# Altium schematic symbol library KST-51.SchLib: 34 symbols
Pins are listed as number, name and electrical type; pins without a type are passive.

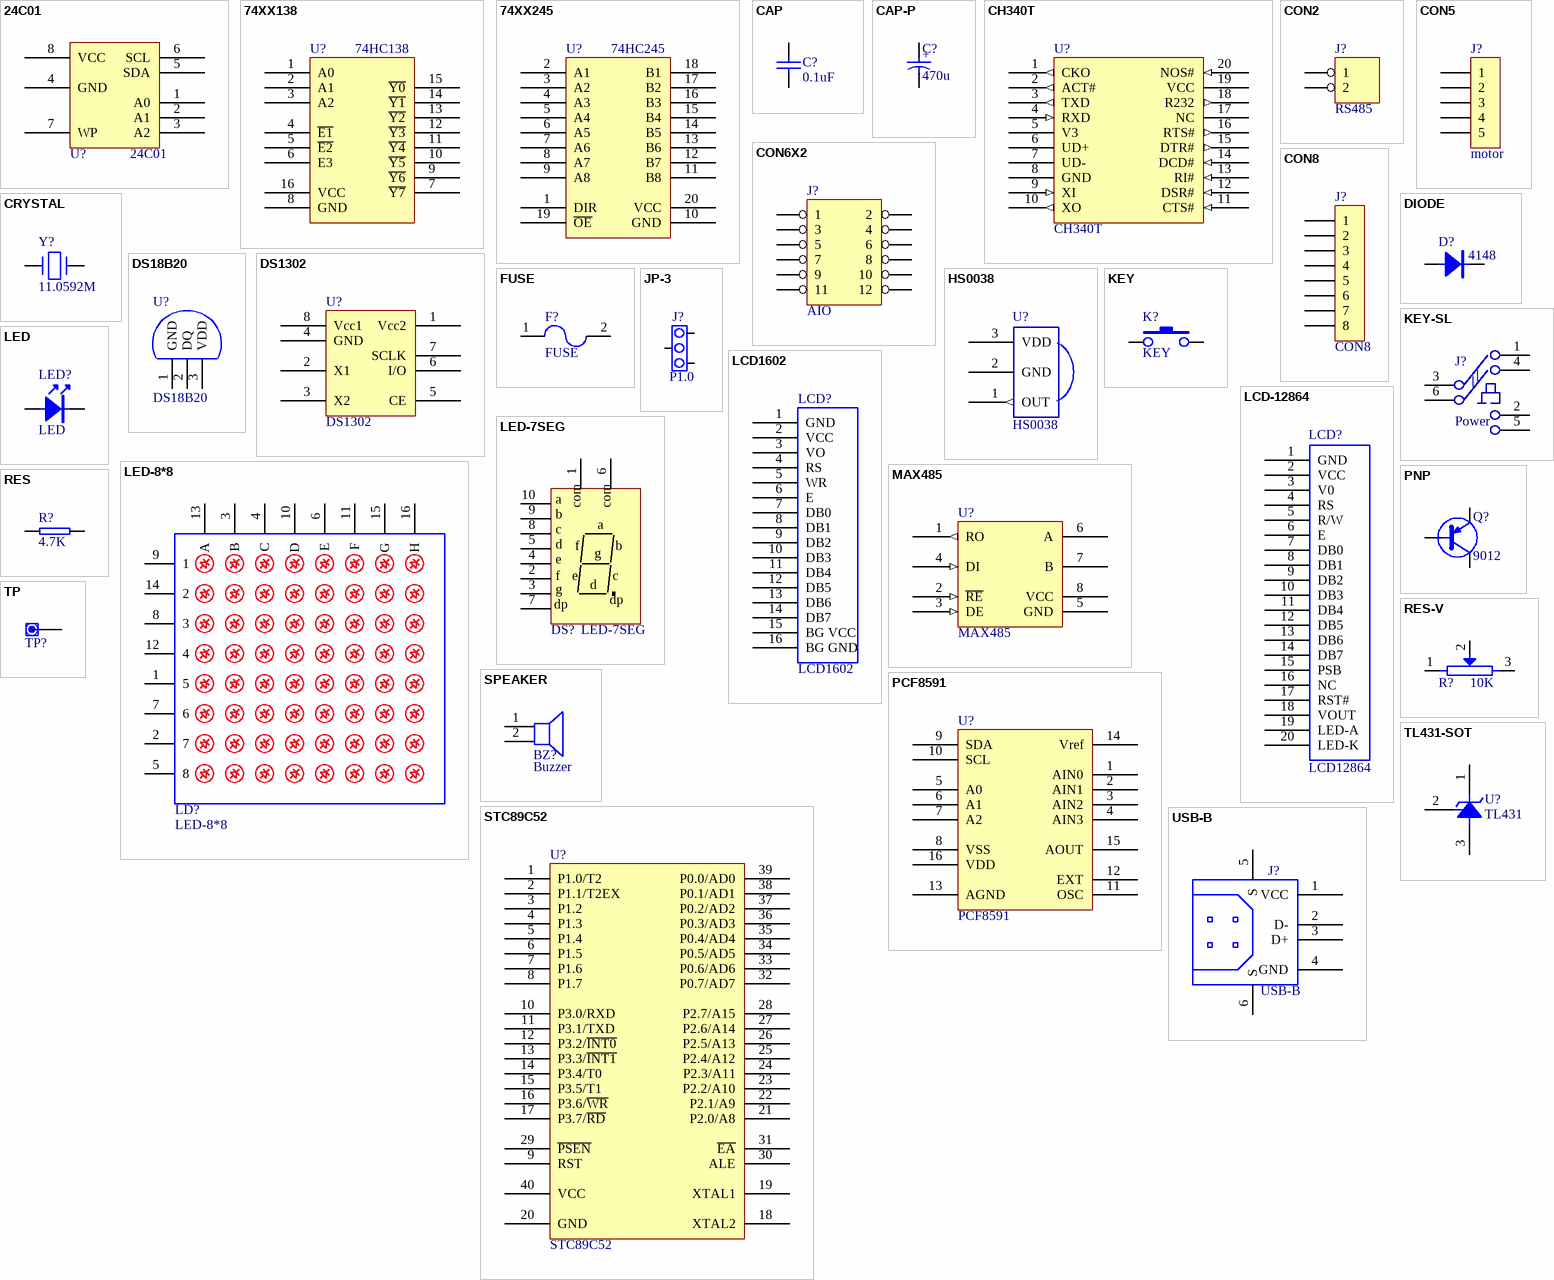
[diagram p0: symbols 24C01 to USB-B]

## 24C01
designator U?
footprint SOP8
footprint TSSOP8
footprint DIP8
pins: 1 A0, 2 A1, 3 A2, 4 GND, 5 SDA, 6 SCL, 7 WP, 8 VCC

## 74XX138
designator U?, comment 74HC138
footprint SOP16-240 (Footprint not found)
footprint DIP16
pins: 1 A0, 2 A1, 3 A2, 4 ~{E1}, 5 ~{E2}, 6 E3, 7 ~{Y7}, 8 GND, 9 ~{Y6}, 10 ~{Y5}, 11 ~{Y4}, 12 ~{Y3}, 13 ~{Y2}, 14 ~{Y1}, 15 ~{Y0}, 16 VCC

## 74XX245
designator U?, comment 74HC245
footprint SOP20
footprint DIP20
footprint SOP20-400
pins: 1 DIR, 2 A1, 3 A2, 4 A3, 5 A4, 6 A5, 7 A6, 8 A7, 9 A8, 10 GND, 11 B8, 12 B7, 13 B6, 14 B5, 15 B4, 16 B3, 17 B2, 18 B1, 19 ~{OE}, 20 VCC

## CAP
designator C?, comment 0.1uF
footprint 0603C
footprint 0805C
footprint 1206C
footprint RAD-0.2
pins: 1, 2

## CAP-P
designator C?, comment 470u
footprint 1206C
footprint RB.1/.24
footprint RB.2/.4
footprint RB.09/.2
pins: 1, 2
text: +

## CH340T
designator U?
USB to UART Bridge Controller
footprint SSOP20-5.3 (20-Lead Shrink Small Outline Package, Body Width 5.3mm)
pins: 1 CKO (out), 2 ACT# (out), 3 TXD (out), 4 RXD (in), 5 V3 (power), 6 UD+, 7 UD-, 8 GND (power), 9 XI (in), 10 XO (out), 11 CTS# (in), 12 DSR# (in), 13 RI# (in), 14 DCD# (in), 15 DTR# (out), 16 RTS# (out), 17 NC, 18 R232 (out), 19 VCC (power), 20 NOS# (in)
2 alternate drawings of the same symbol

## CON2
designator J?, comment RS485
Connector 2p
footprint PLUG2-5.08
pins: 1, 2
2 alternate drawings of the same symbol

## CON5
designator J?, comment motor
Connector
footprint PLUG-S5
pins: 1, 2, 3, 4, 5

## CON6X2
designator J?, comment AIO
Connector 6*2p
footprint IDC6X2-M
pins: 1, 2, 3, 4, 5, 6, 7, 8, 9, 10, 11, 12
2 alternate drawings of the same symbol

## CON8
designator J?
Connector
footprint SIP8
pins: 1, 2, 3, 4, 5, 6, 7, 8

## CRYSTAL
designator Y?, comment 11.0592M
footprint XTAL1
footprint XTAL
pins: 1, 2

## DIODE
designator D?, comment 4148
footprint D0805
footprint DIODE-1
footprint DIODE-2
footprint 1206D
pins: A 1, K 2

## DS18B20
designator U?
footprint TO-92
pins: 1 GND, 2 DQ, 3 VDD

## DS1302
designator U?
footprint SOP8
pins: 1 Vcc2, 2 X1, 3 X2, 4 GND, 5 CE, 6 I/O, 7 SCLK, 8 Vcc1

## FUSE
designator F?
footprint FUSE-1
footprint 1812
pins: 1, 2

## HS0038
designator U?
Infrared Receiver
footprint HS0038
pins: 1 OUT (out), 2 GND (power), 3 VDD (power)
2 alternate drawings of the same symbol

## JP-3
designator J?, comment P1.0
footprint SIP3
footprint JP3*1
pins: 1, 2, 3

## KEY
designator K?
footprint KEY-1
footprint KEY-6*6
pins: 1, 2

## KEY-SL
designator J?, comment Power
Self-locking button
pins: 1, 2, 3, 4, 5, 6
2 alternate drawings of the same symbol

## LCD1602
designator LCD?
footprint SIP16
footprint LCD1602
pins: 1 GND, 2 VCC, 3 VO, 4 RS, 5 WR, 6 E, 7 DB0, 8 DB1, 9 DB2, 10 DB3, 11 DB4, 12 DB5, 13 DB6, 14 DB7, 15 BG VCC, 16 BG GND

## LCD-12864
designator LCD?, comment LCD12864
20pin 128*64 LCD
footprint SIP20
pins: 1 GND (power), 2 VCC (power), 3 V0 (power), 4 RS (power), 5 R/W (power), 6 E (power), 7 DB0 (power), 8 DB1 (power), 9 DB2 (power), 10 DB3 (power), 11 DB4 (power), 12 DB5 (power), 13 DB6 (power), 14 DB7 (power), 15 PSB (power), 16 NC (power), 17 RST# (power), 18 VOUT (power), 19 LED-A (power), 20 LED-K (power)

## LED
designator LED?
footprint D0805
footprint LED-1
footprint 0805LED
pins: A 1, K 2

## LED-7SEG
designator DS?
Seven-Segment Display, Right Hand Decimal
footprint LED-C7
pins: 1 com, 2 f, 3 g, 4 e, 5 d, 6 com, 7 dp, 8 c, 9 b, 10 a

## LED-8*8
designator LD?
footprint LED-8*8
pins: 1 5, 2 7, 3 B, 4 C, 5 8, 6 E, 7 6, 8 3, 9 1, 10 D, 11 F, 12 4, 13 A, 14 2, 15 G, 16 H

## MAX485
designator U?
RS-485 Transceiver
footprint SOP8-3.9 (8-Lead Small Outline Package, Body Width 3.9mm)
pins: 1 RO (out), 2 ~{RE} (in), 3 DE (in), 4 DI (in), 5 GND (power), 6 A, 7 B, 8 VCC (power)
2 alternate drawings of the same symbol

## PCF8591
designator U?
footprint SOP16
footprint DIP16
footprint SOP16-400
pins: 1 AIN0, 2 AIN1, 3 AIN2, 4 AIN3, 5 A0, 6 A1, 7 A2, 8 VSS, 9 SDA, 10 SCL, 11 OSC, 12 EXT, 13 AGND, 14 Vref, 15 AOUT, 16 VDD

## PNP
designator Q?, comment 9012
footprint TO-92
footprint SOT-23
footprint SOT-23-2N
pins: B, C, E

## RES
designator R?, comment 4.7K
footprint 0603
footprint 0805
footprint 1206
footprint AXIAL-0.4
pins: 1, 2

## RES-V
designator R?, comment 10K
footprint VR5
footprint VR6
pins: 1, 2, 3

## SPEAKER
designator BZ?, comment Buzzer
footprint BUZZ-2
pins: 1, 2

## STC89C52
designator U?
footprint DIP40-PLUG (Footprint not found)
pins: 1 P1.0/T2, 2 P1.1/T2EX, 3 P1.2, 4 P1.3, 5 P1.4, 6 P1.5, 7 P1.6, 8 P1.7, 9 RST, 10 P3.0/RXD, 11 P3.1/TXD, 12 P3.2/~{INT0}, 13 P3.3/~{INT1}, 14 P3.4/T0, 15 P3.5/T1, 16 P3.6/~{WR}, 17 P3.7/~{RD}, 18 XTAL2, 19 XTAL1, 20 GND, 21 P2.0/A8, 22 P2.1/A9, 23 P2.2/A10, 24 P2.3/A11, 25 P2.4/A12, 26 P2.5/A13, 27 P2.6/A14, 28 P2.7/A15, 29 ~{PSEN}, 30 ALE, 31 ~{EA}, 32 P0.7/AD7, 33 P0.6/AD6, 34 P0.5/AD5, 35 P0.4/AD4, 36 P0.3/AD3, 37 P0.2/AD2, 38 P0.1/AD1, 39 P0.0/AD0, 40 VCC

## TL431-SOT
designator U?, comment TL431
Adjustable precision shunt regulator, 3p SOT
footprint SOT-23-3L (3-Lead Small Outline Transistor Package)
pins: 1 CATHODE (power), 2 REF, 3 ANODE (power)
2 alternate drawings of the same symbol

## TP
designator TP?, comment +5V  (value not drawn)
电路测试点
footprint TP
footprint TP-S
pins: 1

## USB-B
designator J?
USB B型插座
footprint USB-B
pins: 1 VCC, 2 D-, 3 D+, 4 GND, 5 S, 6 S